# EAGLE library part 146134-20 (library con-tyco-mod-II)
HEADER
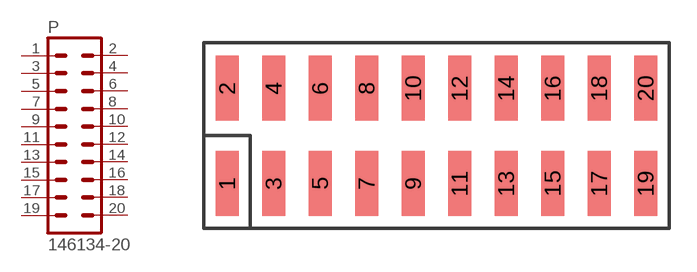
[diagram p7: symbol with the pads of 146134-20; footprint 146134-20]

Designator prefix P

## 146134-20  [146134-20]
1  1  pas
2  2  pas
3  3  pas
4  4  pas
5  5  pas
6  6  pas
7  7  pas
8  8  pas
9  9  pas
10  10  pas
11  11  pas
12  12  pas
13  13  pas
14  14  pas
15  15  pas
16  16  pas
17  17  pas
18  18  pas
19  19  pas
20  20  pas

## Footprint 146134-20 (pad centres in mm)
HEADER
smd 1.27 x 3.556: 1 -11.43,-2.603; 2 -11.43,2.603; 3 -8.89,-2.603; 4 -8.89,2.603; 5 -6.35,-2.603; 6 -6.35,2.603; 7 -3.81,-2.603; 8 -3.81,2.603; 9 -1.27,-2.603; 10 -1.27,2.603; 11 1.27,-2.603; 12 1.27,2.603; 13 3.81,-2.603; 14 3.81,2.603; 15 6.35,-2.603; 16 6.35,2.603; 17 8.89,-2.603; 18 8.89,2.603; 19 11.43,-2.603; 20 11.43,2.603